# Altium schematic symbol library Cypress Molson.SCHLIB: 47 symbols
Pins are listed as number, name and electrical type; pins without a type are passive.

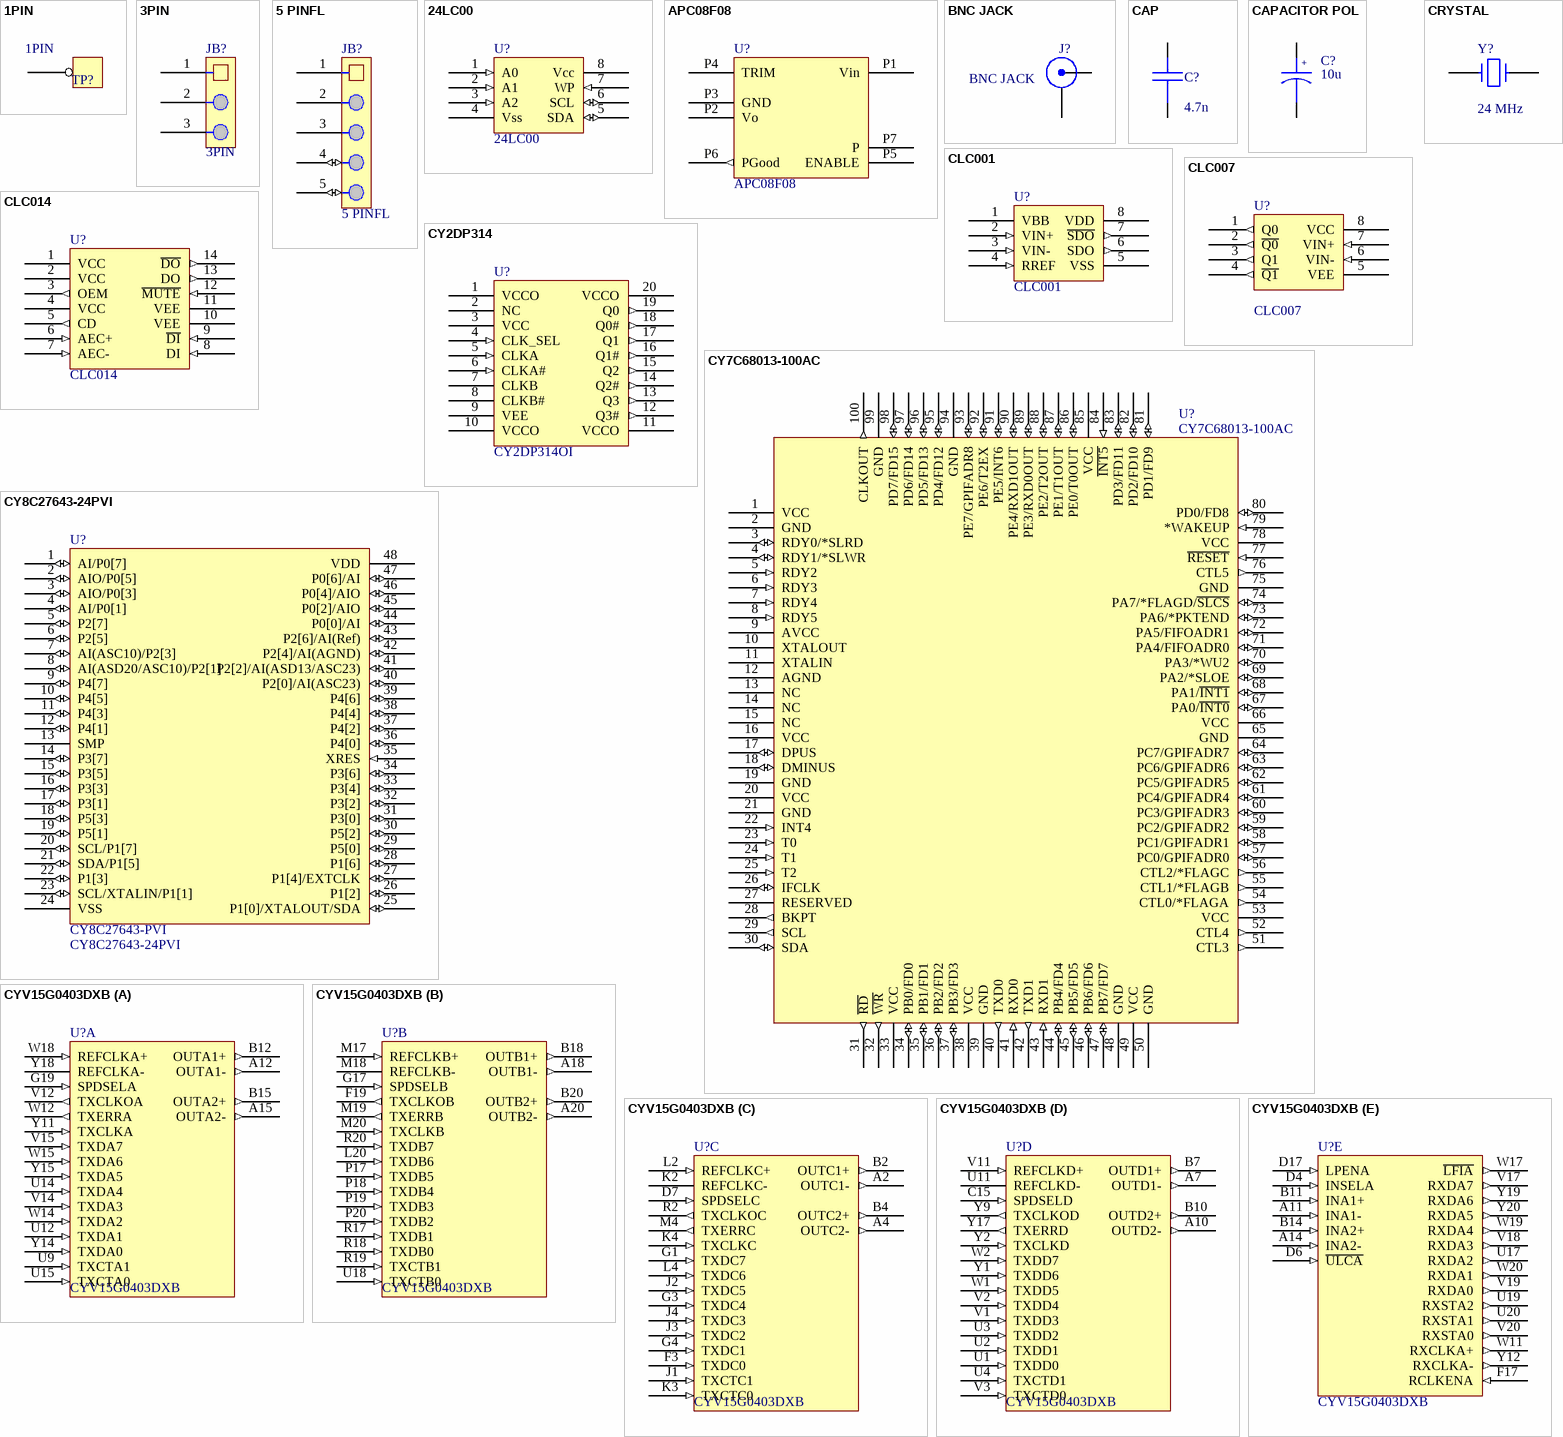
[diagram p0: symbols 1PIN to CYV15G0403DXB]

## 1PIN
designator TP?
footprint 1PIN (Testpoint)
pins: 1

## 3PIN
designator JB?
3X1PIN
footprint 3X1PIN
pins: 1, 2, 3 (power)

## 5 PINFL
designator JB?
5x1 Pin Friction Lock
footprint 5x1 PINFL (5x1 Pin Friction Lock)
pins: 1, 2, 3, 4 (io), 5 (io)

## 24LC00
designator U?
128-bit I2C Bus Serial EEPROM; Text Field1: 60; Text Field2: 50
footprint SO-8
footprint DIP8
pins: 1 A0 (in), 2 A1 (in), 3 A2 (in), 4 Vss (power), 5 SDA (io), 6 SCL (io), 7 WP (in), 8 Vcc (power)

## APC08F08
designator U?
footprint APC08F08
pins: P1 Vin (power), P2 Vo (power), P3 GND (power), P4 TRIM, P5 ENABLE, P6 PGood (out), P7 P

## BNC JACK
designator J?
footprint BNC-EDGE (Edge-mount BNC Jack)
pins: 1 SIGNAL, 2 GND

## CAP
designator C?
SMT CAP
footprint 0805
footprint 0603
pins: 1, 2

## CAPACITOR POL
designator C?, comment 10u
Text Field1: 20; Text Field2: 20
footprint 6032
footprint TC3216-1206
footprint 7343
pins: 1, 2
text: +

## CLC001
designator U?
footprint SO-8
pins: 1 VBB (power), 2 VIN+ (in), 3 VIN- (in), 4 RREF (in), 5 VSS (power), 6 SDO (out), 7 ~{SDO} (out), 8 VDD (power)

## CLC007
designator U?
footprint SO-8
pins: 1 Q0 (out), 2 ~{Q0} (out), 3 Q1 (out), 4 ~{Q1} (out), 5 VEE (power), 6 VIN- (in), 7 VIN+ (in), 8 VCC (power)

## CLC014
designator U?
footprint SO-14
pins: 1 VCC (power), 2 VCC (power), 3 OEM (out), 4 VCC (power), 5 CD (out), 6 AEC+ (in), 7 AEC- (in), 8 DI (in), 9 ~{DI} (in), 10 VEE (power), 11 VEE (power), 12 ~{MUTE} (in), 13 DO (out), 14 ~{DO} (out)

## CRYSTAL
designator Y?, comment 24 MHz
Crystal
footprint HC-49
pins: 1, 2

## CY2DP314
designator U?, comment CY2DP314OI
footprint SSO-G20/P.65
pins: 1 VCCO (power), 2 NC (hiz), 3 VCC (power), 4 CLK_SEL (in), 5 CLKA (in), 6 CLKA# (in), 7 CLKB, 8 CLKB#, 9 VEE (power), 10 VCCO (power), 11 VCCO (power), 12 Q3# (out), 13 Q3 (out), 14 Q2# (out), 15 Q2 (out), 16 Q1# (out), 17 Q1 (out), 18 Q0# (out), 19 Q0 (out), 20 VCCO (power)

## CY7C68013-100AC
designator U?
footprint R-QFP14x20-G100/P.65N
pins: 1 VCC (power), 2 GND (power), 3 RDY0/*SLRD (io), 4 RDY1/*SLWR (io), 5 RDY2 (in), 6 RDY3 (in), 7 RDY4 (in), 8 RDY5 (in), 9 AVCC (power), 10 XTALOUT, 11 XTALIN, 12 AGND (power), 13 NC (hiz), 14 NC (hiz), 15 NC (hiz), 16 VCC (power), 17 DPUS (io), 18 DMINUS (io), 19 GND (power), 20 VCC (power), 21 GND (power), 22 INT4 (in), 23 T0 (in), 24 T1 (in), 25 T2 (in), 26 IFCLK (io), 27 RESERVED (hiz), 28 BKPT (out), 29 SCL (out), 30 SDA (io), 31 ~{RD} (out), 32 ~{WR} (out), 33 VCC (power), 34 PB0/FD0 (io), 35 PB1/FD1 (io), 36 PB2/FD2 (io), 37 PB3/FD3 (io), 38 VCC (power), 39 GND (power), 40 TXD0 (out), 41 RXD0 (in), 42 TXD1 (out), 43 RXD1 (in), 44 PB4/FD4 (io), 45 PB5/FD5 (io), 46 PB6/FD6 (io), 47 PB7/FD7 (io), 48 GND (power), 49 VCC (power), 50 GND (power), 51 CTL3 (out), 52 CTL4 (out), 53 VCC (power), 54 CTL0/*FLAGA (out), 55 CTL1/*FLAGB (out), 56 CTL2/*FLAGC (out), 57 PC0/GPIFADR0 (io), 58 PC1/GPIFADR1 (io), 59 PC2/GPIFADR2 (io), 60 PC3/GPIFADR3 (io), 61 PC4/GPIFADR4 (io), 62 PC5/GPIFADR5 (io), 63 PC6/GPIFADR6 (io), 64 PC7/GPIFADR7 (io), 65 GND (power), 66 VCC (power), 67 PA0/~{INT0} (io), 68 PA1/~{INT1} (io), 69 PA2/*SLOE (io), 70 PA3/*WU2 (io), 71 PA4/FIFOADR0 (io), 72 PA5/FIFOADR1 (io), 73 PA6/*PKTEND (io), 74 PA7/*FLAGD/~{SLCS} (io), 75 GND (power), 76 CTL5 (out), 77 ~{RESET} (in), 78 VCC (power), 79 *WAKEUP (in), 80 PD0/FD8 (io), 81 PD1/FD9 (io), 82 PD2/FD10 (io), 83 PD3/FD11 (io), 84 ~{INT5} (in), 85 VCC (power), 86 PE0/T0OUT (io), 87 PE1/T1OUT (io), 88 PE2/T2OUT (io), 89 PE3/RXD0OUT (io), 90 PE4/RXD1OUT (io), 91 PE5/INT6 (io), 92 PE6/T2EX (io), 93 PE7/GPIFADR8 (io), 94 GND (power), 95 PD4/FD12 (io), 96 PD5/FD13 (io), 97 PD6/FD14 (io), 98 PD7/FD15 (io), 99 GND (power), 100 CLKOUT (out)

## CY8C27643-24PVI
designator U?
footprint SSO-G48
pins: 1 AI/P0[7] (io), 2 AIO/P0[5] (io), 3 AIO/P0[3] (io), 4 AI/P0[1] (io), 5 P2[7] (io), 6 P2[5] (io), 7 AI(ASC10)/P2[3] (io), 8 AI(ASD20/ASC10)/P2[1] (io), 9 P4[7] (io), 10 P4[5] (io), 11 P4[3] (io), 12 P4[1] (io), 13 SMP (power), 14 P3[7] (io), 15 P3[5] (io), 16 P3[3] (io), 17 P3[1] (io), 18 P5[3] (io), 19 P5[1] (io), 20 SCL/P1[7] (io), 21 SDA/P1[5] (io), 22 P1[3] (io), 23 SCL/XTALIN/P1[1] (io), 24 VSS (power), 25 P1[0]/XTALOUT/SDA (io), 26 P1[2] (io), 27 P1[4]/EXTCLK (io), 28 P1[6] (io), 29 P5[0] (io), 30 P5[2] (io), 31 P3[0] (io), 32 P3[2] (io), 33 P3[4] (io), 34 P3[6] (io), 35 XRES (in), 36 P4[0] (io), 37 P4[2] (io), 38 P4[4] (io), 39 P4[6] (io), 40 P2[0]/AI(ASC23) (io), 41 P2[2]/AI(ASD13/ASC23) (io), 42 P2[4]/AI(AGND) (io), 43 P2[6]/AI(Ref) (io), 44 P0[0]/AI (io), 45 P0[2]/AIO (io), 46 P0[4]/AIO (io), 47 P0[6]/AI (io), 48 VDD (power)
text: CY8C27643-PVI

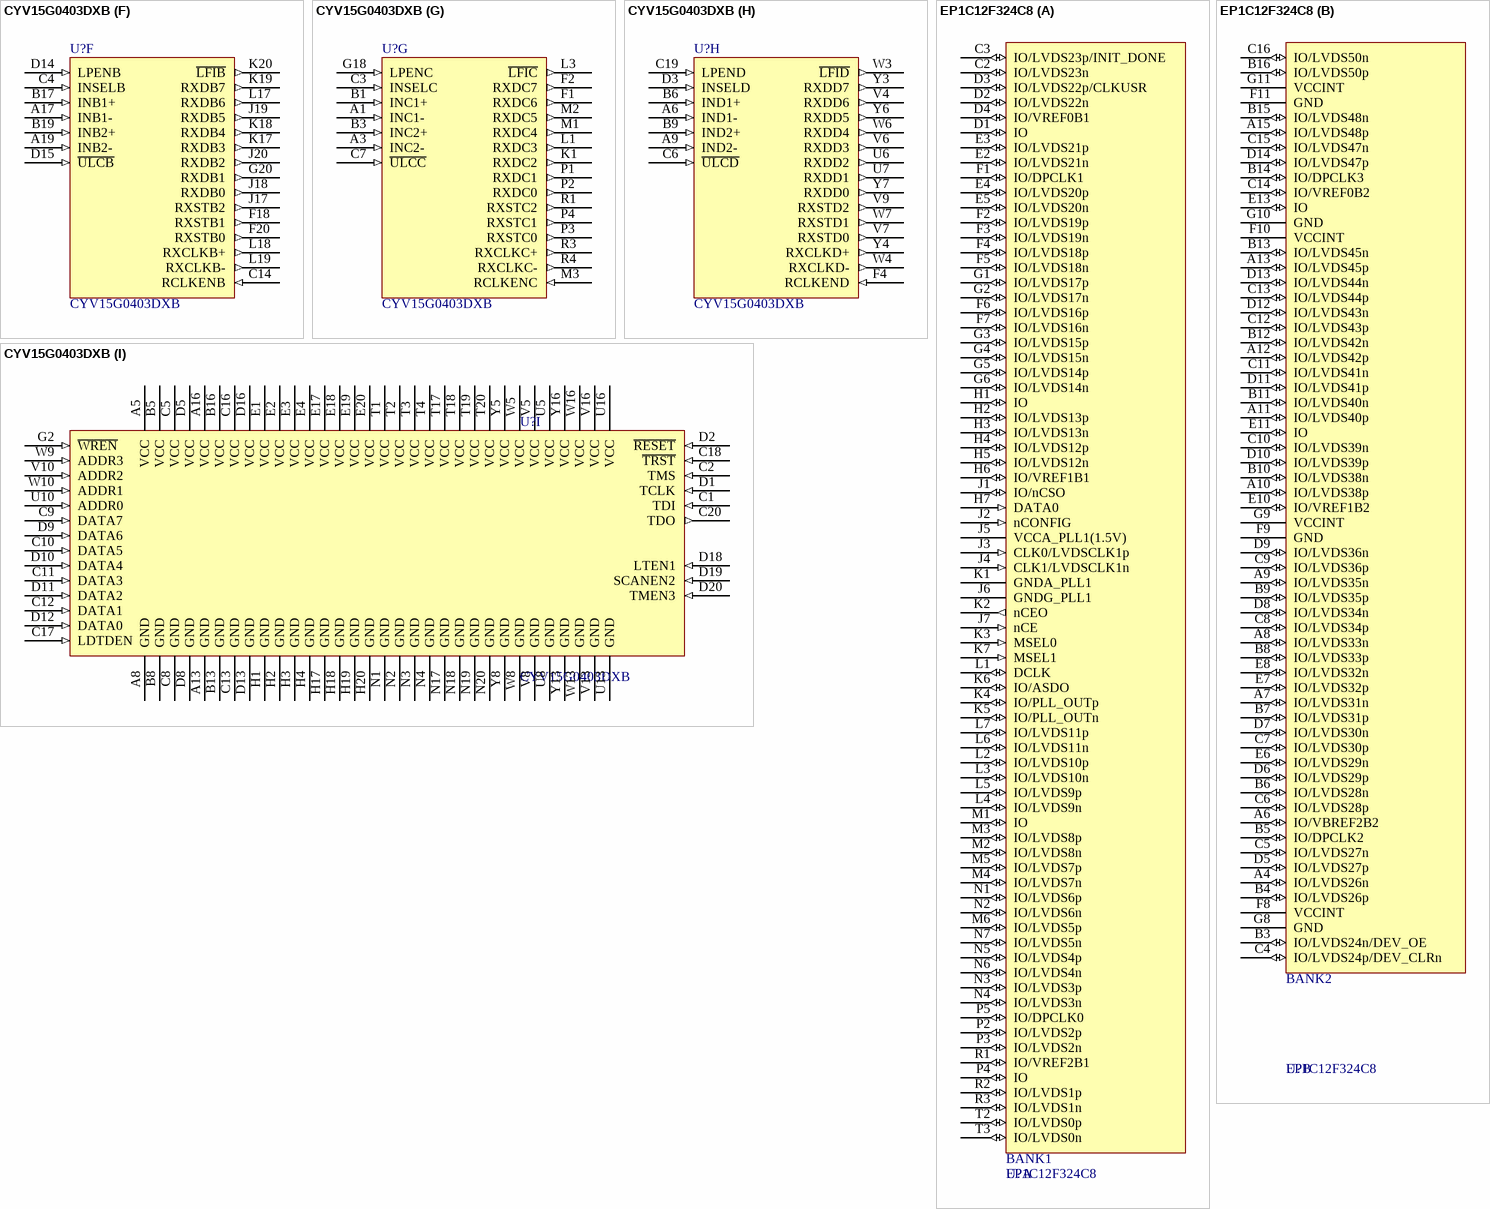
[diagram p1: symbols CYV15G0403DXB to EP1C12F324C8]

## CYV15G0403DXB
designator U?
footprint BGA27X27-B256
signal-integrity model Model Name (Model Description)
part A pins: A12 OUTA1- (out), A15 OUTA2- (out), B12 OUTA1+ (out), B15 OUTA2+ (out), G19 SPDSELA (in), U9 TXCTA1 (in), U12 TXDA1 (in), U14 TXDA4 (in), U15 TXCTA0 (in), V12 TXCLKOA (out), V14 TXDA3 (in), V15 TXDA7 (in), W12 TXERRA (out), W14 TXDA2 (in), W15 TXDA6 (in), W18 REFCLKA+ (in), Y11 TXCLKA (in), Y14 TXDA0 (in), Y15 TXDA5 (in), Y18 REFCLKA-
part B pins: A18 OUTB1- (out), A20 OUTB2- (out), B18 OUTB1+ (out), B20 OUTB2+ (out), F19 TXCLKOB (out), G17 SPDSELB (in), L20 TXDB6 (in), M17 REFCLKB+ (in), M18 REFCLKB-, M19 TXERRB (out), M20 TXCLKB (in), P17 TXDB5 (in), P18 TXDB4 (in), P19 TXDB3 (in), P20 TXDB2 (in), R17 TXDB1 (in), R18 TXDB0 (in), R19 TXCTB1 (in), R20 TXDB7 (in), U18 TXCTB0 (in)
part C pins: A2 OUTC1- (out), A4 OUTC2- (out), B2 OUTC1+ (out), B4 OUTC2+ (out), D7 SPDSELC (in), F3 TXDC0 (in), G1 TXDC7 (in), G3 TXDC4 (in), G4 TXDC1 (in), J1 TXCTC1 (in), J2 TXDC5 (in), J3 TXDC2 (in), J4 TXDC3 (in), K2 REFCLKC-, K3 TXCTC0 (in), K4 TXCLKC (in), L2 REFCLKC+ (in), L4 TXDC6 (in), M4 TXERRC (out), R2 TXCLKOC (out)
part D pins: A7 OUTD1- (out), A10 OUTD2- (out), B7 OUTD1+ (out), B10 OUTD2+ (out), C15 SPDSELD (in), U1 TXDD0 (in), U2 TXDD1 (in), U3 TXDD2 (in), U4 TXCTD1 (in), U11 REFCLKD-, V1 TXDD3 (in), V2 TXDD4 (in), V3 TXCTD0 (in), V11 REFCLKD+ (in), W1 TXDD5 (in), W2 TXDD7 (in), Y1 TXDD6 (in), Y2 TXCLKD (in), Y9 TXCLKOD (out), Y17 TXERRD (out)
part E pins: A11 INA1- (in), A14 INA2- (in), B11 INA1+ (in), B14 INA2+ (in), D4 INSELA (in), D6 ~{ULCA} (in), D17 LPENA (in), F17 RCLKENA (in), U17 RXDA2 (out), U19 RXSTA2 (out), U20 RXSTA1 (out), V17 RXDA7 (out), V18 RXDA3 (out), V19 RXDA0 (out), V20 RXSTA0 (out), W11 RXCLKA+ (out), W17 ~{LFIA} (out), W19 RXDA4 (out), W20 RXDA1 (out), Y12 RXCLKA- (out), Y19 RXDA6 (out), Y20 RXDA5 (out)
part F pins: A17 INB1- (in), A19 INB2- (in), B17 INB1+ (in), B19 INB2+ (in), C4 INSELB (in), C14 RCLKENB (in), D14 LPENB (in), D15 ~{ULCB} (in), F18 RXSTB1 (out), F20 RXSTB0 (out), G20 RXDB1 (out), J17 RXSTB2 (out), J18 RXDB0 (out), J19 RXDB5 (out), J20 RXDB2 (out), K17 RXDB3 (out), K18 RXDB4 (out), K19 RXDB7 (out), K20 ~{LFIB} (out), L17 RXDB6 (out), L18 RXCLKB+ (out), L19 RXCLKB- (out)
part G pins: A1 INC1- (in), A3 INC2- (in), B1 INC1+ (in), B3 INC2+ (in), C3 INSELC (in), C7 ~{ULCC} (in), F1 RXDC6 (out), F2 RXDC7 (out), G18 LPENC (in), K1 RXDC2 (out), L1 RXDC3 (out), L3 ~{LFIC} (out), M1 RXDC4 (out), M2 RXDC5 (out), M3 RCLKENC (in), P1 RXDC1 (out), P2 RXDC0 (out), P3 RXSTC0 (out), P4 RXSTC1 (out), R1 RXSTC2 (out), R3 RXCLKC+ (out), R4 RXCLKC- (out)
part H pins: A6 IND1- (in), A9 IND2- (in), B6 IND1+ (in), B9 IND2+ (in), C6 ~{ULCD} (in), C19 LPEND (in), D3 INSELD (in), F4 RCLKEND (in), U6 RXDD2 (out), U7 RXDD1 (out), V4 RXDD6 (out), V6 RXDD3 (out), V7 RXSTD0 (out), V9 RXSTD2 (out), W3 ~{LFID} (out), W4 RXCLKD- (out), W6 RXDD4 (out), W7 RXSTD1 (out), Y3 RXDD7 (out), Y4 RXCLKD+ (out), Y6 RXDD5 (out), Y7 RXDD0 (out)
part I pins: A5 VCC (power), A8 GND (power), A13 GND (power), A16 VCC (power), B5 VCC (power), B8 GND (power), B13 GND (power), B16 VCC (power), C1 TDI (in), C2 TMS (in), C5 VCC (power), C8 GND (power), C9 DATA7 (in), C10 DATA5 (in), C11 DATA3 (in), C12 DATA1 (in), C13 GND (power), C16 VCC (power), C17 LDTDEN (in), C18 ~{TRST} (in), C20 TDO (out), D1 TCLK (in), D2 ~{RESET} (in), D5 VCC (power), D8 GND (power), D9 DATA6 (in), D10 DATA4 (in), D11 DATA2 (in), D12 DATA0 (in), D13 GND (power), D16 VCC (power), D18 LTEN1 (in), D19 SCANEN2 (in), D20 TMEN3 (in), E1 VCC (power), E2 VCC (power), E3 VCC (power), E4 VCC (power), E17 VCC (power), E18 VCC (power), E19 VCC (power), E20 VCC (power), G2 ~{WREN} (in), H1 GND (power), H2 GND (power), H3 GND (power), H4 GND (power), H17 GND (power), H18 GND (power), H19 GND (power), H20 GND (power), N1 GND (power), N2 GND (power), N3 GND (power), N4 GND (power), N17 GND (power), N18 GND (power), N19 GND (power), N20 GND (power), T1 VCC (power), T2 VCC (power), T3 VCC (power), T4 VCC (power), T17 VCC (power), T18 VCC (power), T19 VCC (power), T20 VCC (power), U5 VCC (power), U8 GND (power), U10 ADDR0 (in), U13 GND (power), U16 VCC (power), V5 VCC (power), V8 GND (power), V10 ADDR2 (in), V13 GND (power), V16 VCC (power), W5 VCC (power), W8 GND (power), W9 ADDR3 (in), W10 ADDR1 (in), W13 GND (power), W16 VCC (power), Y5 VCC (power), Y8 GND (power), Y13 GND (power), Y16 VCC (power)

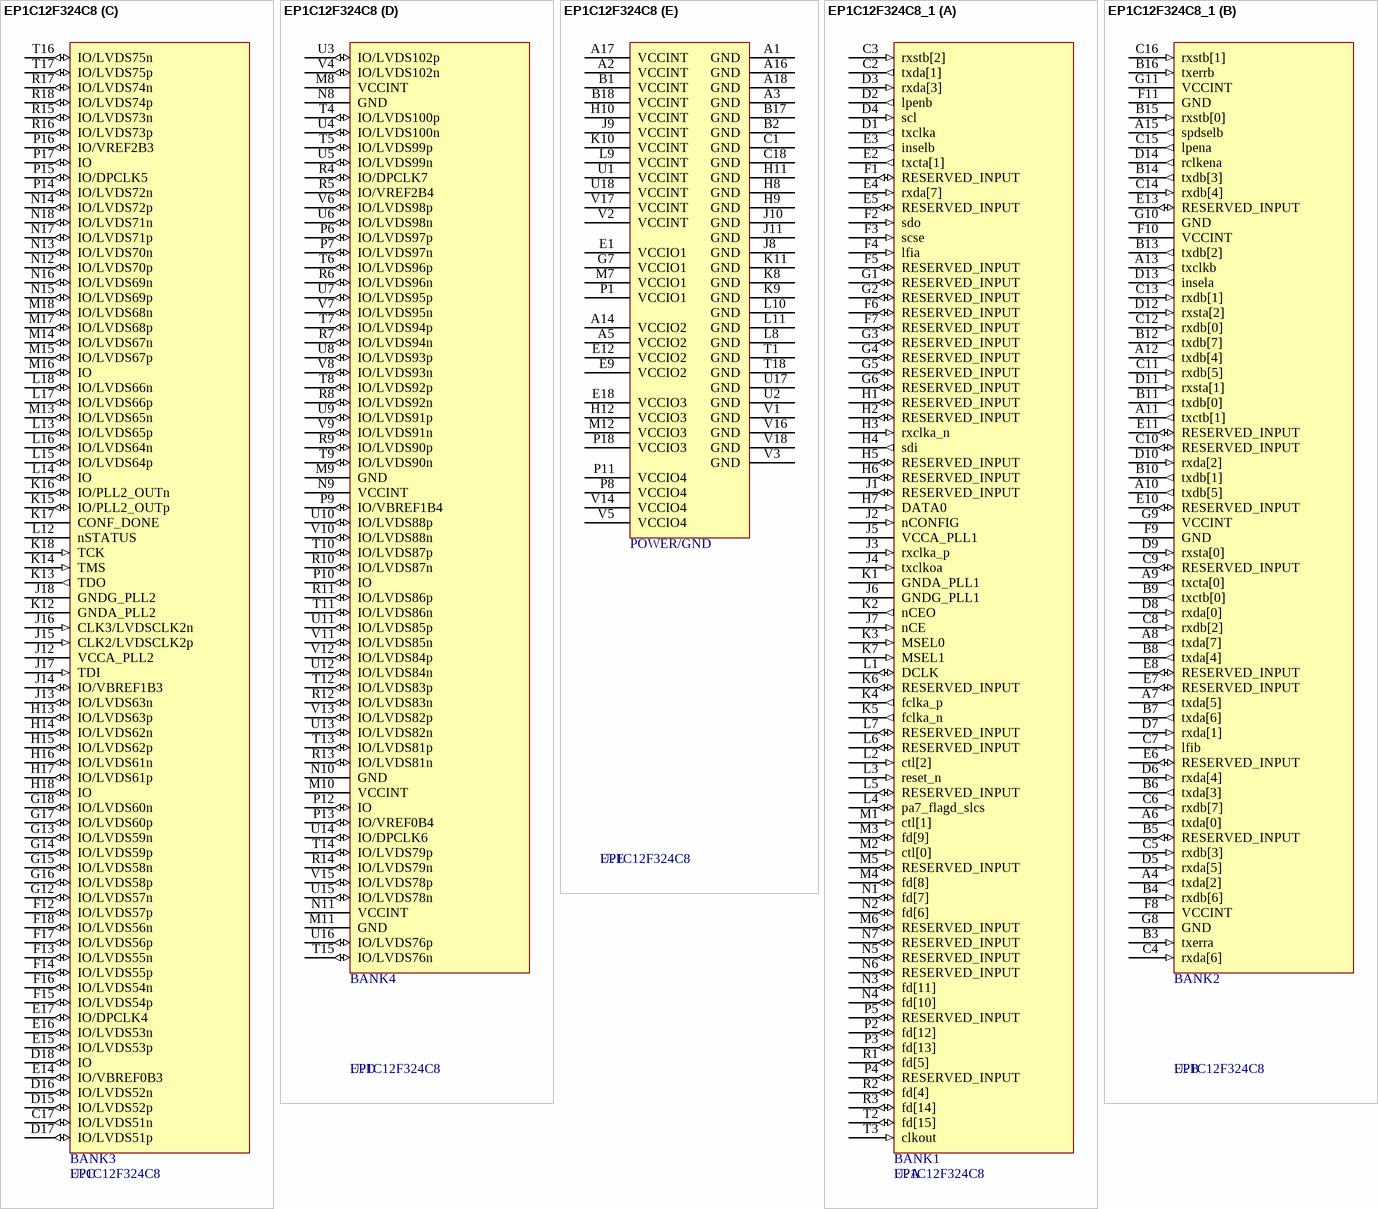
[diagram p2: symbols EP1C12F324C8 to EP1C12F324C8_1]

## EP1C12F324C8
designator U?
footprint FBGA324
footprint BGA19X19-B324
signal-integrity model Model Name (Model Description)
part A pins: C2 IO/LVDS23n (io), C3 IO/LVDS23p/INIT_DONE (io), D1 IO (io), D2 IO/LVDS22n (io), D3 IO/LVDS22p/CLKUSR (io), D4 IO/VREF0B1 (io), E2 IO/LVDS21n (io), E3 IO/LVDS21p (io), E4 IO/LVDS20p (io), E5 IO/LVDS20n (io), F1 IO/DPCLK1 (io), F2 IO/LVDS19p (io), F3 IO/LVDS19n (io), F4 IO/LVDS18p (io), F5 IO/LVDS18n (io), F6 IO/LVDS16p (io), F7 IO/LVDS16n (io), G1 IO/LVDS17p (io), G2 IO/LVDS17n (io), G3 IO/LVDS15p (io), G4 IO/LVDS15n (io), G5 IO/LVDS14p (io), G6 IO/LVDS14n (io), H1 IO (io), H2 IO/LVDS13p (io), H3 IO/LVDS13n (io), H4 IO/LVDS12p (io), H5 IO/LVDS12n (io), H6 IO/VREF1B1 (io), H7 DATA0 (in), J1 IO/nCSO (io), J2 nCONFIG (in), J3 CLK0/LVDSCLK1p (in), J4 CLK1/LVDSCLK1n (in), J5 VCCA_PLL1(1.5V) (power), J6 GNDG_PLL1 (power), J7 nCE (in), K1 GNDA_PLL1 (power), K2 nCEO (out), K3 MSEL0 (in), K4 IO/PLL_OUTp (io), K5 IO/PLL_OUTn (io), K6 IO/ASDO (io), K7 MSEL1 (in), L1 DCLK (io), L2 IO/LVDS10p (io), L3 IO/LVDS10n (io), L4 IO/LVDS9n (io), L5 IO/LVDS9p (io), L6 IO/LVDS11n (io), L7 IO/LVDS11p (io), M1 IO (io), M2 IO/LVDS8n (io), M3 IO/LVDS8p (io), M4 IO/LVDS7n (io), M5 IO/LVDS7p (io), M6 IO/LVDS5p (io), N1 IO/LVDS6p (io), N2 IO/LVDS6n (io), N3 IO/LVDS3p (io), N4 IO/LVDS3n (io), N5 IO/LVDS4p (io), N6 IO/LVDS4n (io), N7 IO/LVDS5n (io), P2 IO/LVDS2p (io), P3 IO/LVDS2n (io), P4 IO (io), P5 IO/DPCLK0 (io), R1 IO/VREF2B1 (io), R2 IO/LVDS1p (io), R3 IO/LVDS1n (io), T2 IO/LVDS0p (io), T3 IO/LVDS0n (io)
part B pins: A4 IO/LVDS26n (io), A6 IO/VBREF2B2 (io), A7 IO/LVDS31n (io), A8 IO/LVDS33n (io), A9 IO/LVDS35n (io), A10 IO/LVDS38p (io), A11 IO/LVDS40p (io), A12 IO/LVDS42p (io), A13 IO/LVDS45p (io), A15 IO/LVDS48p (io), B3 IO/LVDS24n/DEV_OE (io), B4 IO/LVDS26p (io), B5 IO/DPCLK2 (io), B6 IO/LVDS28n (io), B7 IO/LVDS31p (io), B8 IO/LVDS33p (io), B9 IO/LVDS35p (io), B10 IO/LVDS38n (io), B11 IO/LVDS40n (io), B12 IO/LVDS42n (io), B13 IO/LVDS45n (io), B14 IO/DPCLK3 (io), B15 IO/LVDS48n (io), B16 IO/LVDS50p (io), C4 IO/LVDS24p/DEV_CLRn (io), C5 IO/LVDS27n (io), C6 IO/LVDS28p (io), C7 IO/LVDS30p (io), C8 IO/LVDS34p (io), C9 IO/LVDS36p (io), C10 IO/LVDS39n (io), C11 IO/LVDS41n (io), C12 IO/LVDS43p (io), C13 IO/LVDS44p (io), C14 IO/VREF0B2 (io), C15 IO/LVDS47n (io), C16 IO/LVDS50n (io), D5 IO/LVDS27p (io), D6 IO/LVDS29p (io), D7 IO/LVDS30n (io), D8 IO/LVDS34n (io), D9 IO/LVDS36n (io), D10 IO/LVDS39p (io), D11 IO/LVDS41p (io), D12 IO/LVDS43n (io), D13 IO/LVDS44n (io), D14 IO/LVDS47p (io), E6 IO/LVDS29n (io), E7 IO/LVDS32p (io), E8 IO/LVDS32n (io), E10 IO/VREF1B2 (io), E11 IO (io), E13 IO (io), F8 VCCINT (power), F9 GND (power), F10 VCCINT (power), F11 GND (power), G8 GND (power), G9 VCCINT (power), G10 GND (power), G11 VCCINT (power)
part C pins: C17 IO/LVDS51n (io), D15 IO/LVDS52p (io), D16 IO/LVDS52n (io), D17 IO/LVDS51p (io), D18 IO (io), E14 IO/VBREF0B3 (io), E15 IO/LVDS53p (io), E16 IO/LVDS53n (io), E17 IO/DPCLK4 (io), F12 IO/LVDS57p (io), F13 IO/LVDS55n (io), F14 IO/LVDS55p (io), F15 IO/LVDS54p (io), F16 IO/LVDS54n (io), F17 IO/LVDS56p (io), F18 IO/LVDS56n (io), G12 IO/LVDS57n (io), G13 IO/LVDS59n (io), G14 IO/LVDS59p (io), G15 IO/LVDS58n (io), G16 IO/LVDS58p (io), G17 IO/LVDS60p (io), G18 IO/LVDS60n (io), H13 IO/LVDS63p (io), H14 IO/LVDS62n (io), H15 IO/LVDS62p (io), H16 IO/LVDS61n (io), H17 IO/LVDS61p (io), H18 IO (io), J12 VCCA_PLL2 (power), J13 IO/LVDS63n (io), J14 IO/VBREF1B3 (io), J15 CLK2/LVDSCLK2p (in), J16 CLK3/LVDSCLK2n (in), J17 TDI (in), J18 GNDG_PLL2 (power), K12 GNDA_PLL2 (power), K13 TDO (out), K14 TMS (in), K15 IO/PLL2_OUTp (io), K16 IO/PLL2_OUTn (io), K17 CONF_DONE (oc), K18 TCK (in), L12 nSTATUS (oc), L13 IO/LVDS65p (io), L14 IO (io), L15 IO/LVDS64p (io), L16 IO/LVDS64n (io), L17 IO/LVDS66p (io), L18 IO/LVDS66n (io), M13 IO/LVDS65n (io), M14 IO/LVDS67n (io), M15 IO/LVDS67p (io), M16 IO (io), M17 IO/LVDS68p (io), M18 IO/LVDS68n (io), N12 IO/LVDS70p (io), N13 IO/LVDS70n (io), N14 IO/LVDS72p (io), N15 IO/LVDS69p (io), N16 IO/LVDS69n (io), N17 IO/LVDS71p (io), N18 IO/LVDS71n (io), P14 IO/LVDS72n (io), P15 IO/DPCLK5 (io), P16 IO/VREF2B3 (io), P17 IO (io), R15 IO/LVDS73n (io), R16 IO/LVDS73p (io), R17 IO/LVDS74n (io), R18 IO/LVDS74p (io), T16 IO/LVDS75n (io), T17 IO/LVDS75p (io)
part D pins: M8 VCCINT (power), M9 GND (power), M10 VCCINT (power), M11 GND (power), N8 GND (power), N9 VCCINT (power), N10 GND (power), N11 VCCINT (power), P6 IO/LVDS97p (io), P7 IO/LVDS97n (io), P9 IO/VBREF1B4 (io), P10 IO (io), P12 IO (io), P13 IO/VREF0B4 (io), R4 IO/DPCLK7 (io), R5 IO/VREF2B4 (io), R6 IO/LVDS96n (io), R7 IO/LVDS94n (io), R8 IO/LVDS92n (io), R9 IO/LVDS90p (io), R10 IO/LVDS87n (io), R11 IO/LVDS86p (io), R12 IO/LVDS83n (io), R13 IO/LVDS81n (io), R14 IO/LVDS79n (io), T4 IO/LVDS100p (io), T5 IO/LVDS99p (io), T6 IO/LVDS96p (io), T7 IO/LVDS94p (io), T8 IO/LVDS92p (io), T9 IO/LVDS90n (io), T10 IO/LVDS87p (io), T11 IO/LVDS86n (io), T12 IO/LVDS83p (io), T13 IO/LVDS81p (io), T14 IO/LVDS79p (io), T15 IO/LVDS76n (io), U3 IO/LVDS102p (io), U4 IO/LVDS100n (io), U5 IO/LVDS99n (io), U6 IO/LVDS98n (io), U7 IO/LVDS95p (io), U8 IO/LVDS93p (io), U9 IO/LVDS91p (io), U10 IO/LVDS88p (io), U11 IO/LVDS85p (io), U12 IO/LVDS84n (io), U13 IO/LVDS82n (io), U14 IO/DPCLK6 (io), U15 IO/LVDS78n (io), U16 IO/LVDS76p (io), V4 IO/LVDS102n (io), V6 IO/LVDS98p (io), V7 IO/LVDS95n (io), V8 IO/LVDS93n (io), V9 IO/LVDS91n (io), V10 IO/LVDS88n (io), V11 IO/LVDS85n (io), V12 IO/LVDS84p (io), V13 IO/LVDS82p (io), V15 IO/LVDS78p (io)
part E pins: A1 GND (power), A2 VCCINT (power), A3 GND (power), A5 VCCIO2 (power), A14 VCCIO2 (power), A16 GND (power), A17 VCCINT (power), A18 GND (power), B1 VCCINT (power), B2 GND (power), B17 GND (power), B18 VCCINT (power), C1 GND (power), C18 GND (power), E1 VCCIO1 (power), E9 VCCIO2 (power), E12 VCCIO2 (power), E18 VCCIO3 (power), G7 VCCIO1 (power), H8 GND (power), H9 GND (power), H10 VCCINT (power), H11 GND (power), H12 VCCIO3 (power), J8 GND (power), J9 VCCINT (power), J10 GND (power), J11 GND (power), K8 GND (power), K9 GND (power), K10 VCCINT (power), K11 GND (power), L8 GND (power), L9 VCCINT (power), L10 GND (power), L11 GND (power), M7 VCCIO1 (power), M12 VCCIO3 (power), P1 VCCIO1 (power), P8 VCCIO4 (power), P11 VCCIO4 (power), P18 VCCIO3 (power), T1 GND (power), T18 GND (power), U1 VCCINT (power), U2 GND (power), U17 GND (power), U18 VCCINT (power), V1 GND (power), V2 VCCINT (power), V3 GND (power), V5 VCCIO4 (power), V14 VCCIO4 (power), V16 GND (power), V17 VCCINT (power), V18 GND (power)
part A text: BANK1
part B text: BANK2
part C text: BANK3
part D text: BANK4
part E text: POWER/GND

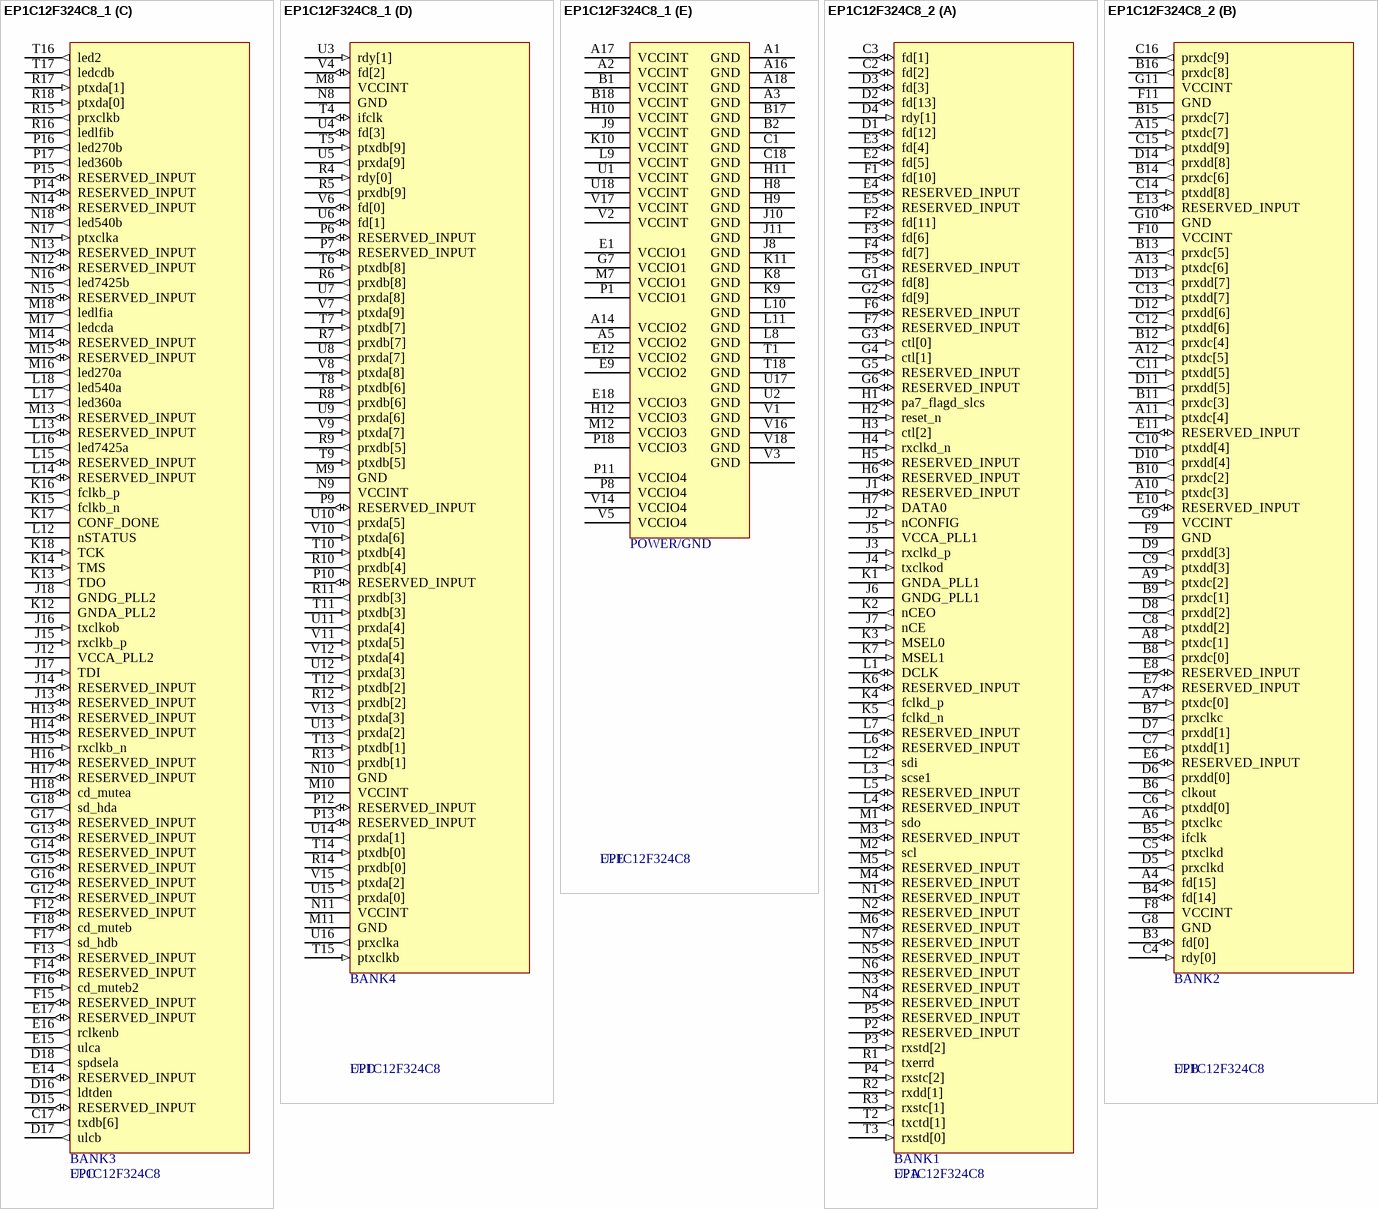
[diagram p3: symbols EP1C12F324C8_1 to EP1C12F324C8_2]

## EP1C12F324C8_1
designator U?, comment EP1C12F324C8
footprint FBGA324
footprint BGA19X19-B324
signal-integrity model Model Name (Model Description)
part A pins: C2 txda[1] (out), C3 rxstb[2] (in), D1 txclka (out), D2 lpenb (out), D3 rxda[3] (in), D4 scl (in), E2 txcta[1] (out), E3 inselb (out), E4 rxda[7] (in), E5 RESERVED_INPUT (io), F1 RESERVED_INPUT (io), F2 sdo (in), F3 scse (in), F4 lfia (in), F5 RESERVED_INPUT (io), F6 RESERVED_INPUT (io), F7 RESERVED_INPUT (io), G1 RESERVED_INPUT (io), G2 RESERVED_INPUT (io), G3 RESERVED_INPUT (io), G4 RESERVED_INPUT (io), G5 RESERVED_INPUT (io), G6 RESERVED_INPUT (io), H1 RESERVED_INPUT (io), H2 RESERVED_INPUT (io), H3 rxclka_n (in), H4 sdi (out), H5 RESERVED_INPUT (io), H6 RESERVED_INPUT (io), H7 DATA0 (in), J1 RESERVED_INPUT (io), J2 nCONFIG (in), J3 rxclka_p (in), J4 txclkoa (in), J5 VCCA_PLL1 (power), J6 GNDG_PLL1 (power), J7 nCE (in), K1 GNDA_PLL1 (power), K2 nCEO (out), K3 MSEL0 (in), K4 fclka_p (out), K5 fclka_n (out), K6 RESERVED_INPUT (io), K7 MSEL1 (in), L1 DCLK (io), L2 ctl[2] (in), L3 reset_n (in), L4 pa7_flagd_slcs (io), L5 RESERVED_INPUT (io), L6 RESERVED_INPUT (io), L7 RESERVED_INPUT (io), M1 ctl[1] (in), M2 ctl[0] (in), M3 fd[9] (io), M4 fd[8] (io), M5 RESERVED_INPUT (io), M6 RESERVED_INPUT (io), N1 fd[7] (io), N2 fd[6] (io), N3 fd[11] (io), N4 fd[10] (io), N5 RESERVED_INPUT (io), N6 RESERVED_INPUT (io), N7 RESERVED_INPUT (io), P2 fd[12] (io), P3 fd[13] (io), P4 RESERVED_INPUT (io), P5 RESERVED_INPUT (io), R1 fd[5] (io), R2 fd[4] (io), R3 fd[14] (io), T2 fd[15] (io), T3 clkout (in)
part B pins: A4 txda[2] (out), A6 txda[0] (out), A7 txda[5] (out), A8 txda[7] (out), A9 txcta[0] (out), A10 txdb[5] (out), A11 txctb[1] (out), A12 txdb[4] (out), A13 txclkb (out), A15 spdselb (out), B3 txerra (in), B4 rxdb[6] (in), B5 RESERVED_INPUT (io), B6 txda[3] (out), B7 txda[6] (out), B8 txda[4] (out), B9 txctb[0] (out), B10 txdb[1] (out), B11 txdb[0] (out), B12 txdb[7] (out), B13 txdb[2] (out), B14 txdb[3] (out), B15 rxstb[0] (in), B16 txerrb (in), C4 rxda[6] (in), C5 rxdb[3] (in), C6 rxdb[7] (in), C7 lfib (in), C8 rxdb[2] (in), C9 RESERVED_INPUT (io), C10 RESERVED_INPUT (io), C11 rxdb[5] (in), C12 rxdb[0] (in), C13 rxdb[1] (in), C14 rxdb[4] (in), C15 lpena (out), C16 rxstb[1] (in), D5 rxda[5] (in), D6 rxda[4] (in), D7 rxda[1] (in), D8 rxda[0] (in), D9 rxsta[0] (in), D10 rxda[2] (in), D11 rxsta[1] (in), D12 rxsta[2] (in), D13 insela (out), D14 rclkena (out), E6 RESERVED_INPUT (io), E7 RESERVED_INPUT (io), E8 RESERVED_INPUT (io), E10 RESERVED_INPUT (io), E11 RESERVED_INPUT (io), E13 RESERVED_INPUT (io), F8 VCCINT (power), F9 GND (power), F10 VCCINT (power), F11 GND (power), G8 GND (power), G9 VCCINT (power), G10 GND (power), G11 VCCINT (power)
part C pins: C17 txdb[6] (out), D15 RESERVED_INPUT (io), D16 ldtden (out), D17 ulcb (out), D18 spdsela (out), E14 RESERVED_INPUT (io), E15 ulca (out), E16 rclkenb (out), E17 RESERVED_INPUT (io), F12 RESERVED_INPUT (io), F13 RESERVED_INPUT (io), F14 RESERVED_INPUT (io), F15 RESERVED_INPUT (io), F16 cd_muteb2 (in), F17 sd_hdb (out), F18 cd_muteb (io), G12 RESERVED_INPUT (io), G13 RESERVED_INPUT (io), G14 RESERVED_INPUT (io), G15 RESERVED_INPUT (io), G16 RESERVED_INPUT (io), G17 RESERVED_INPUT (io), G18 sd_hda (out), H13 RESERVED_INPUT (io), H14 RESERVED_INPUT (io), H15 rxclkb_n (in), H16 RESERVED_INPUT (io), H17 RESERVED_INPUT (io), H18 cd_mutea (io), J12 VCCA_PLL2 (power), J13 RESERVED_INPUT (io), J14 RESERVED_INPUT (io), J15 rxclkb_p (in), J16 txclkob (in), J17 TDI (in), J18 GNDG_PLL2 (power), K12 GNDA_PLL2 (power), K13 TDO (out), K14 TMS (in), K15 fclkb_n (out), K16 fclkb_p (out), K17 CONF_DONE (oc), K18 TCK (in), L12 nSTATUS (oc), L13 RESERVED_INPUT (io), L14 RESERVED_INPUT (io), L15 RESERVED_INPUT (io), L16 led7425a (out), L17 led360a (out), L18 led540a (out), M13 RESERVED_INPUT (io), M14 RESERVED_INPUT (io), M15 RESERVED_INPUT (io), M16 led270a (out), M17 ledcda (out), M18 ledlfia (out), N12 RESERVED_INPUT (io), N13 RESERVED_INPUT (io), N14 RESERVED_INPUT (io), N15 RESERVED_INPUT (io), N16 led7425b (out), N17 ptxclka (in), N18 led540b (out), P14 RESERVED_INPUT (io), P15 RESERVED_INPUT (io), P16 led270b (out), P17 led360b (out), R15 prxclkb (out), R16 ledlfib (out), R17 ptxda[1] (in), R18 ptxda[0] (in), T16 led2 (out), T17 ledcdb (out)
part D pins: M8 VCCINT (power), M9 GND (power), M10 VCCINT (power), M11 GND (power), N8 GND (power), N9 VCCINT (power), N10 GND (power), N11 VCCINT (power), P6 RESERVED_INPUT (io), P7 RESERVED_INPUT (io), P9 RESERVED_INPUT (io), P10 RESERVED_INPUT (io), P12 RESERVED_INPUT (io), P13 RESERVED_INPUT (io), R4 rdy[0] (in), R5 prxdb[9] (out), R6 prxdb[8] (out), R7 prxdb[7] (out), R8 prxdb[6] (out), R9 prxdb[5] (out), R10 prxdb[4] (out), R11 prxdb[3] (out), R12 prxdb[2] (out), R13 prxdb[1] (out), R14 prxdb[0] (out), T4 ifclk (io), T5 ptxdb[9] (in), T6 ptxdb[8] (in), T7 ptxdb[7] (in), T8 ptxdb[6] (in), T9 ptxdb[5] (in), T10 ptxdb[4] (in), T11 ptxdb[3] (in), T12 ptxdb[2] (in), T13 ptxdb[1] (in), T14 ptxdb[0] (in), T15 ptxclkb (in), U3 rdy[1] (in), U4 fd[3] (io), U5 prxda[9] (out), U6 fd[1] (io), U7 prxda[8] (out), U8 prxda[7] (out), U9 prxda[6] (out), U10 prxda[5] (out), U11 prxda[4] (out), U12 prxda[3] (out), U13 prxda[2] (out), U14 prxda[1] (out), U15 prxda[0] (out), U16 prxclka (out), V4 fd[2] (io), V6 fd[0] (io), V7 ptxda[9] (in), V8 ptxda[8] (in), V9 ptxda[7] (in), V10 ptxda[6] (in), V11 ptxda[5] (in), V12 ptxda[4] (in), V13 ptxda[3] (in), V15 ptxda[2] (in)
part E pins: A1 GND (power), A2 VCCINT (power), A3 GND (power), A5 VCCIO2 (power), A14 VCCIO2 (power), A16 GND (power), A17 VCCINT (power), A18 GND (power), B1 VCCINT (power), B2 GND (power), B17 GND (power), B18 VCCINT (power), C1 GND (power), C18 GND (power), E1 VCCIO1 (power), E9 VCCIO2 (power), E12 VCCIO2 (power), E18 VCCIO3 (power), G7 VCCIO1 (power), H8 GND (power), H9 GND (power), H10 VCCINT (power), H11 GND (power), H12 VCCIO3 (power), J8 GND (power), J9 VCCINT (power), J10 GND (power), J11 GND (power), K8 GND (power), K9 GND (power), K10 VCCINT (power), K11 GND (power), L8 GND (power), L9 VCCINT (power), L10 GND (power), L11 GND (power), M7 VCCIO1 (power), M12 VCCIO3 (power), P1 VCCIO1 (power), P8 VCCIO4 (power), P11 VCCIO4 (power), P18 VCCIO3 (power), T1 GND (power), T18 GND (power), U1 VCCINT (power), U2 GND (power), U17 GND (power), U18 VCCINT (power), V1 GND (power), V2 VCCINT (power), V3 GND (power), V5 VCCIO4 (power), V14 VCCIO4 (power), V16 GND (power), V17 VCCINT (power), V18 GND (power)
part A text: BANK1
part B text: BANK2
part C text: BANK3
part D text: BANK4
part E text: POWER/GND

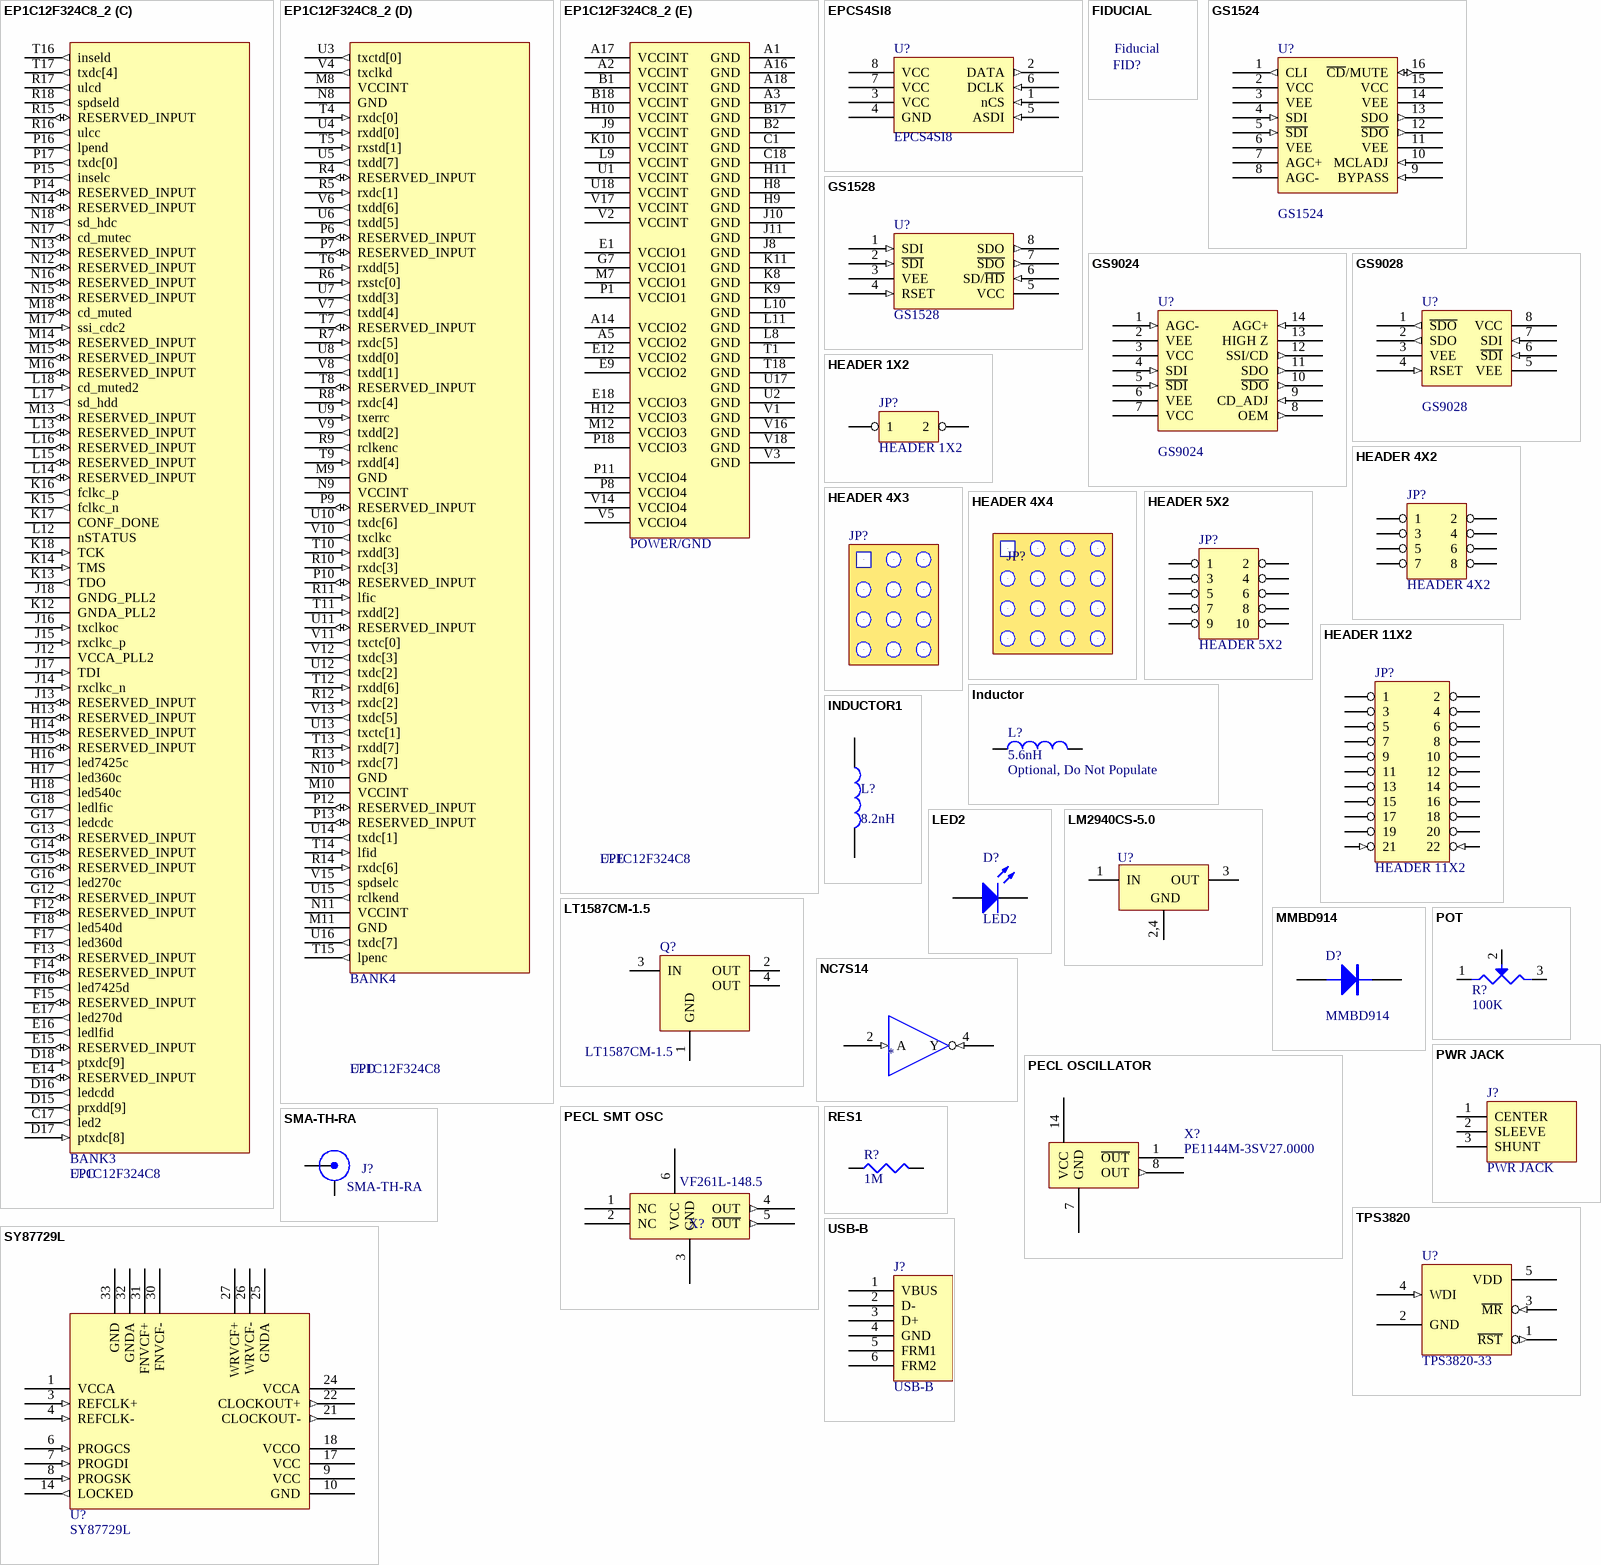
[diagram p4: symbols EP1C12F324C8_2 to USB-B]

## EP1C12F324C8_2
designator U?, comment EP1C12F324C8
footprint FBGA324
footprint BGA19X19-B324
signal-integrity model Model Name (Model Description)
part A pins: C2 fd[2] (io), C3 fd[1] (io), D1 fd[12] (io), D2 fd[13] (io), D3 fd[3] (io), D4 rdy[1] (in), E2 fd[5] (io), E3 fd[4] (io), E4 RESERVED_INPUT (io), E5 RESERVED_INPUT (io), F1 fd[10] (io), F2 fd[11] (io), F3 fd[6] (io), F4 fd[7] (io), F5 RESERVED_INPUT (io), F6 RESERVED_INPUT (io), F7 RESERVED_INPUT (io), G1 fd[8] (io), G2 fd[9] (io), G3 ctl[0] (in), G4 ctl[1] (in), G5 RESERVED_INPUT (io), G6 RESERVED_INPUT (io), H1 pa7_flagd_slcs (io), H2 reset_n (in), H3 ctl[2] (in), H4 rxclkd_n (in), H5 RESERVED_INPUT (io), H6 RESERVED_INPUT (io), H7 DATA0 (in), J1 RESERVED_INPUT (io), J2 nCONFIG (in), J3 rxclkd_p (in), J4 txclkod (in), J5 VCCA_PLL1 (power), J6 GNDG_PLL1 (power), J7 nCE (in), K1 GNDA_PLL1 (power), K2 nCEO (out), K3 MSEL0 (in), K4 fclkd_p (out), K5 fclkd_n (out), K6 RESERVED_INPUT (io), K7 MSEL1 (in), L1 DCLK (io), L2 sdi (out), L3 scse1 (in), L4 RESERVED_INPUT (io), L5 RESERVED_INPUT (io), L6 RESERVED_INPUT (io), L7 RESERVED_INPUT (io), M1 sdo (in), M2 scl (in), M3 RESERVED_INPUT (io), M4 RESERVED_INPUT (io), M5 RESERVED_INPUT (io), M6 RESERVED_INPUT (io), N1 RESERVED_INPUT (io), N2 RESERVED_INPUT (io), N3 RESERVED_INPUT (io), N4 RESERVED_INPUT (io), N5 RESERVED_INPUT (io), N6 RESERVED_INPUT (io), N7 RESERVED_INPUT (io), P2 RESERVED_INPUT (io), P3 rxstd[2] (in), P4 rxstc[2] (in), P5 RESERVED_INPUT (io), R1 txerrd (in), R2 rxdd[1] (in), R3 rxstc[1] (in), T2 txctd[1] (out), T3 rxstd[0] (in)
part B pins: A4 fd[15] (io), A6 ptxclkc (in), A7 ptxdc[0] (in), A8 ptxdc[1] (in), A9 ptxdc[2] (in), A10 ptxdc[3] (in), A11 ptxdc[4] (in), A12 ptxdc[5] (in), A13 ptxdc[6] (in), A15 ptxdc[7] (in), B3 fd[0] (io), B4 fd[14] (io), B5 ifclk (io), B6 clkout (in), B7 prxclkc (out), B8 prxdc[0] (out), B9 prxdc[1] (out), B10 prxdc[2] (out), B11 prxdc[3] (out), B12 prxdc[4] (out), B13 prxdc[5] (out), B14 prxdc[6] (out), B15 prxdc[7] (out), B16 prxdc[8] (out), C4 rdy[0] (in), C5 ptxclkd (in), C6 ptxdd[0] (in), C7 ptxdd[1] (in), C8 ptxdd[2] (in), C9 ptxdd[3] (in), C10 ptxdd[4] (in), C11 ptxdd[5] (in), C12 ptxdd[6] (in), C13 ptxdd[7] (in), C14 ptxdd[8] (in), C15 ptxdd[9] (in), C16 prxdc[9] (out), D5 prxclkd (out), D6 prxdd[0] (out), D7 prxdd[1] (out), D8 prxdd[2] (out), D9 prxdd[3] (out), D10 prxdd[4] (out), D11 prxdd[5] (out), D12 prxdd[6] (out), D13 prxdd[7] (out), D14 prxdd[8] (out), E6 RESERVED_INPUT (io), E7 RESERVED_INPUT (io), E8 RESERVED_INPUT (io), E10 RESERVED_INPUT (io), E11 RESERVED_INPUT (io), E13 RESERVED_INPUT (io), F8 VCCINT (power), F9 GND (power), F10 VCCINT (power), F11 GND (power), G8 GND (power), G9 VCCINT (power), G10 GND (power), G11 VCCINT (power)
part C pins: C17 led2 (out), D15 prxdd[9] (out), D16 ledcdd (out), D17 ptxdc[8] (in), D18 ptxdc[9] (in), E14 RESERVED_INPUT (io), E15 RESERVED_INPUT (io), E16 ledlfid (out), E17 led270d (out), F12 RESERVED_INPUT (io), F13 RESERVED_INPUT (io), F14 RESERVED_INPUT (io), F15 RESERVED_INPUT (io), F16 led7425d (out), F17 led360d (out), F18 led540d (out), G12 RESERVED_INPUT (io), G13 RESERVED_INPUT (io), G14 RESERVED_INPUT (io), G15 RESERVED_INPUT (io), G16 led270c (out), G17 ledcdc (out), G18 ledlfic (out), H13 RESERVED_INPUT (io), H14 RESERVED_INPUT (io), H15 RESERVED_INPUT (io), H16 led7425c (out), H17 led360c (out), H18 led540c (out), J12 VCCA_PLL2 (power), J13 RESERVED_INPUT (io), J14 rxclkc_n (in), J15 rxclkc_p (in), J16 txclkoc (in), J17 TDI (in), J18 GNDG_PLL2 (power), K12 GNDA_PLL2 (power), K13 TDO (out), K14 TMS (in), K15 fclkc_n (out), K16 fclkc_p (out), K17 CONF_DONE (oc), K18 TCK (in), L12 nSTATUS (oc), L13 RESERVED_INPUT (io), L14 RESERVED_INPUT (io), L15 RESERVED_INPUT (io), L16 RESERVED_INPUT (io), L17 sd_hdd (out), L18 cd_muted2 (in), M13 RESERVED_INPUT (io), M14 RESERVED_INPUT (io), M15 RESERVED_INPUT (io), M16 RESERVED_INPUT (io), M17 ssi_cdc2 (in), M18 cd_muted (io), N12 RESERVED_INPUT (io), N13 RESERVED_INPUT (io), N14 RESERVED_INPUT (io), N15 RESERVED_INPUT (io), N16 RESERVED_INPUT (io), N17 cd_mutec (io), N18 sd_hdc (out), P14 RESERVED_INPUT (io), P15 inselc (out), P16 lpend (out), P17 txdc[0] (out), R15 RESERVED_INPUT (io), R16 ulcc (out), R17 ulcd (out), R18 spdseld (out), T16 inseld (out), T17 txdc[4] (out)
part D pins: M8 VCCINT (power), M9 GND (power), M10 VCCINT (power), M11 GND (power), N8 GND (power), N9 VCCINT (power), N10 GND (power), N11 VCCINT (power), P6 RESERVED_INPUT (io), P7 RESERVED_INPUT (io), P9 RESERVED_INPUT (io), P10 RESERVED_INPUT (io), P12 RESERVED_INPUT (io), P13 RESERVED_INPUT (io), R4 RESERVED_INPUT (io), R5 rxdc[1] (in), R6 rxstc[0] (in), R7 rxdc[5] (in), R8 rxdc[4] (in), R9 rclkenc (out), R10 rxdc[3] (in), R11 lfic (in), R12 rxdc[2] (in), R13 rxdc[7] (in), R14 rxdc[6] (in), T4 rxdc[0] (in), T5 rxstd[1] (in), T6 rxdd[5] (in), T7 RESERVED_INPUT (io), T8 RESERVED_INPUT (io), T9 rxdd[4] (in), T10 rxdd[3] (in), T11 rxdd[2] (in), T12 rxdd[6] (in), T13 rxdd[7] (in), T14 lfid (in), T15 lpenc (out), U3 txctd[0] (out), U4 rxdd[0] (in), U5 txdd[7] (out), U6 txdd[5] (out), U7 txdd[3] (out), U8 txdd[0] (out), U9 txerrc (in), U10 txdc[6] (out), U11 RESERVED_INPUT (io), U12 txdc[2] (out), U13 txctc[1] (out), U14 txdc[1] (out), U15 rclkend (out), U16 txdc[7] (out), V4 txclkd (out), V6 txdd[6] (out), V7 txdd[4] (out), V8 txdd[1] (out), V9 txdd[2] (out), V10 txclkc (out), V11 txctc[0] (out), V12 txdc[3] (out), V13 txdc[5] (out), V15 spdselc (out)
part E pins: A1 GND (power), A2 VCCINT (power), A3 GND (power), A5 VCCIO2 (power), A14 VCCIO2 (power), A16 GND (power), A17 VCCINT (power), A18 GND (power), B1 VCCINT (power), B2 GND (power), B17 GND (power), B18 VCCINT (power), C1 GND (power), C18 GND (power), E1 VCCIO1 (power), E9 VCCIO2 (power), E12 VCCIO2 (power), E18 VCCIO3 (power), G7 VCCIO1 (power), H8 GND (power), H9 GND (power), H10 VCCINT (power), H11 GND (power), H12 VCCIO3 (power), J8 GND (power), J9 VCCINT (power), J10 GND (power), J11 GND (power), K8 GND (power), K9 GND (power), K10 VCCINT (power), K11 GND (power), L8 GND (power), L9 VCCINT (power), L10 GND (power), L11 GND (power), M7 VCCIO1 (power), M12 VCCIO3 (power), P1 VCCIO1 (power), P8 VCCIO4 (power), P11 VCCIO4 (power), P18 VCCIO3 (power), T1 GND (power), T18 GND (power), U1 VCCINT (power), U2 GND (power), U17 GND (power), U18 VCCINT (power), V1 GND (power), V2 VCCINT (power), V3 GND (power), V5 VCCIO4 (power), V14 VCCIO4 (power), V16 GND (power), V17 VCCINT (power), V18 GND (power)
part A text: BANK1
part B text: BANK2
part C text: BANK3
part D text: BANK4
part E text: POWER/GND

## EPCS4SI8
designator U?
footprint SO-8
pins: 1 nCS (in), 2 DATA (out), 3 VCC (power), 4 GND (power), 5 ASDI (in), 6 DCLK (in), 7 VCC (power), 8 VCC (power)
2 alternate drawings of the same symbol

## FIDUCIAL
designator FID?
Fiducial mark
footprint FIDUCIAL (Fiducial mark)
text: Fiducial

## GS1524
designator U?
HD-LINX II Multi-Rate SDI Adaptive Cable Equalizer
footprint SO-16
pins: 1 CLI (out), 2 VCC (power), 3 VEE (power), 4 SDI (in), 5 ~{SDI} (in), 6 VEE (power), 7 AGC+, 8 AGC-, 9 BYPASS (in), 10 MCLADJ (in), 11 VEE (power), 12 ~{SDO} (out), 13 SDO (out), 14 VEE (power), 15 VCC (power), 16 ~{CD}/MUTE (io)

## GS1528
designator U?
HD-LINX II Multi-Rate SDI Dual Slew-Rate Cable Driver
footprint SO-8
pins: 1 SDI (in), 2 ~{SDI} (in), 3 VEE (power), 4 RSET (in), 5 VCC (power), 6 SD/~{HD} (in), 7 ~{SDO} (out), 8 SDO (out)

## GS9024
designator U?
footprint SO-14
pins: 1 AGC- (in), 2 VEE (power), 3 VCC (power), 4 SDI (in), 5 ~{SDI} (in), 6 VEE (power), 7 VCC (power), 8 OEM (out), 9 CD_ADJ (in), 10 ~{SDO} (out), 11 SDO (out), 12 SSI/CD (out), 13 HIGH Z (hiz), 14 AGC+ (in)

## GS9028
designator U?
footprint SO-8
pins: 1 ~{SDO} (out), 2 SDO (out), 3 VEE (power), 4 RSET (in), 5 VEE (power), 6 ~{SDI} (in), 7 SDI (in), 8 VCC (power)

## HEADER 1X2
designator JP?
Text Field1: 40; Text Field2: 60
footprint 1X2PIN (1 X 2 Pin Jumper)
pins: 1, 2

## HEADER 4X2
designator JP?
Text Field1: 40; Text Field2: 60
footprint 2X4PIN (Footprint not found)
pins: 1, 2, 3, 4, 5, 6, 7, 8

## HEADER 4X3
designator JP?
footprint 4X3 pin
signal-integrity model Model Name (Model Description)
pins: 1, 2, 3, 4, 5, 6, 7, 8, 9, 10, 11, 12

## HEADER 4X4
designator JP?
footprint 4X4 PIN
pins: 1, 2, 3, 4, 5, 6, 7, 8, 9, 10, 11, 12, 13, 14, 15, 16

## HEADER 5X2
designator JP?
Text Field1: 40; Text Field2: 60
footprint 2X5PIN
pins: 1, 2, 3, 4, 5, 6, 7, 8, 9, 10

## HEADER 11X2
designator JP?
footprint 2X11PIN
pins: 1, 2, 3, 4, 5, 6, 7, 8, 9, 10, 11, 12, 13, 14, 15, 16, 17, 18, 19, 20, 21 (in), 22 (in)

## Inductor
designator L?, comment 5.6nH  Note: Optional, Do Not Populate
Inductor; Manufacturer: Generic Components; Class I: Passive; Value: 5.6n; Published: 8-Jun-2000; Revision: July-2002: Re-released for DXP Platform.; Publisher: Altium Limited; Class II: Inductor
footprint C1005-0402
simulation model INDUCTOR (Inductor)
signal-integrity model Inductor
footprint 0805
pins: 1, 2

## INDUCTOR1
designator L?, comment 8.2nH
footprint 0603
footprint 0805
pins: 1, 2

## LED2
designator D?
Typical RED, GREEN, YELLOW, AMBER GaAs LED; Manufacturer: Generic Components; Class I: Optoelectronic; Published: 8-Jun-2000; Revision: July-2002: Re-released for DXP Platform.; Publisher: Altium Limited; Class II: LED
footprint DSO-F2/D6.1
simulation model LED2 (Diode)
footprint 0603D
pins: 1 A, 2 K

## LM2940CS-5.0
designator U?
1A Low-Dropout Regulator; Manufacturer: National Semiconductor; Class I: Power Management; Class II: Voltage Regulator; Note: Tab is GND; Published: 15-Apr-2002; Datasheet: Latest Revision: Jun-1999; Package Reference: TS3B; Publisher: Altium Limited
footprint SIP-G3/Y2.1
pins: 1 IN (power), 2 GND (power), 3 OUT (power), 4 GND (power)
text: 2,4

## LT1587CM-1.5
designator Q?
3-Terminal Positive Regulator; Manufacturer: National Semiconductor; Class I: Power Management; Class II: Voltage Regulator; Note: Tab is connected to GND; Published: 15-Apr-2002; Datasheet: Latest Revision: Apr-1998; Package Reference: TS3B; Publisher: Altium Limited
footprint DDPACK3
pins: 1 GND (power), 2 OUT (power), 3 IN (power), 4 OUT (power)

## MMBD914
designator D?
High Conductance Ultra Fast Diode
footprint SOT-23
pins: 1 A, 3 K
2 alternate drawings of the same symbol

## NC7S14
designator *
footprint SC70
pins: 2 A (in), 3 GND (power) hidden, 4 Y (in), 5 +3.3V (power) hidden

## PECL OSCILLATOR
designator X?, comment PE1144M-3SV27.0000
PECL OSCILLATOR MODULE
footprint DIP14OSC
pins: 1 ~{OUT} (power), 7 GND (power), 8 OUT (out), 14 VCC (power)

## PECL SMT OSC
designator X?, comment VF261L-148.5
footprint OSC14X9
pins: 1 NC, 2 NC, 3 GND (power), 4 OUT (out), 5 ~{OUT} (out), 6 VCC (power)

## POT
designator R?, comment 100K
POT
footprint POT6MM
pins: 1, 2, 3

## PWR JACK
designator J?
Power Jack
footprint RAPC712
pins: 1 CENTER, 2 SLEEVE, 3 SHUNT

## RES1
designator R?, comment 1M
footprint 0805
footprint 0603
pins: 1, 2

## SMA-TH-RA
designator J?
BNC
footprint SMA-TH-RA
pins: 1, 2

## SY87729L
designator U?
footprint QFP7x7-G32/N
pins: 1 VCCA (power), 3 REFCLK+ (in), 4 REFCLK- (in), 6 PROGCS (in), 7 PROGDI (in), 8 PROGSK (in), 9 VCC (power), 10 GND (power), 14 LOCKED (out), 17 VCC (power), 18 VCCO (power), 21 CLOCKOUT- (out), 22 CLOCKOUT+ (out), 24 VCCA (power), 25 GNDA (power), 26 WRVCF-, 27 WRVCF+, 30 FNVCF-, 31 FNVCF+, 32 GNDA (power), 33 GND (power)

## TPS3820
designator U?, comment TPS3820-33
Processor Supervisory Circuit; Text Field1: 60; Text Field2: 60
footprint DBV
pins: 1 ~{RST} (out), 2 GND (power), 3 ~{MR} (in), 4 WDI (in), 5 VDD (power)

## USB-B
designator J?
Universal Serial Bus Type B Receptacle; Text Field1: 40; Text Field2: 70
footprint USB-B
pins: 1 VBUS (power), 2 D-, 3 D+, 4 GND (power), 5 FRM1, 6 FRM2